# EAGLE library part 7SEG-3DIG (library usb)
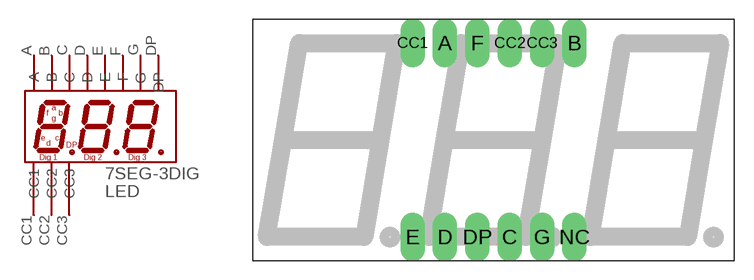
[diagram p20: symbol with the pads of 7SEG_3DIG_0.56; footprint 7SEG_3DIG_0.56]

Designator prefix LED

## 7SEG-3DIG  [7SEG_3DIG_0.56]
A  A  in
B  B  in
C  C  in
CC1  CC1  in
CC2  CC2  in
CC3  CC3  in
D  D  in
DP  DP  in
E  E  in
F  F  in
G  G  in

## Footprint 7SEG_3DIG_0.56 (pad centres in mm)
drill 1 pad 1.93 long: A 2.54,15.24; B 12.7,15.24; C 7.62,0; CC1 0,15.24; CC2 7.62,15.24; CC3 10.16,15.24; D 2.54,0; DP 5.08,0; E 0,0; F 5.08,15.24; G 10.16,0; NC 12.7,0